# Altium schematic symbol library 691412120002B.SchLib: 1 symbol
Pins are listed as number, name and electrical type; pins without a type are passive.

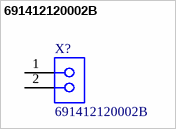
[diagram p0: symbol 691412120002B]

## 691412120002B
designator X?
WR-TBL Series 412B 45° Entry, THT, pitch 3.5mm, 02p
pins: 1, 2